# EAGLE library part IBMATBUS (library connect)
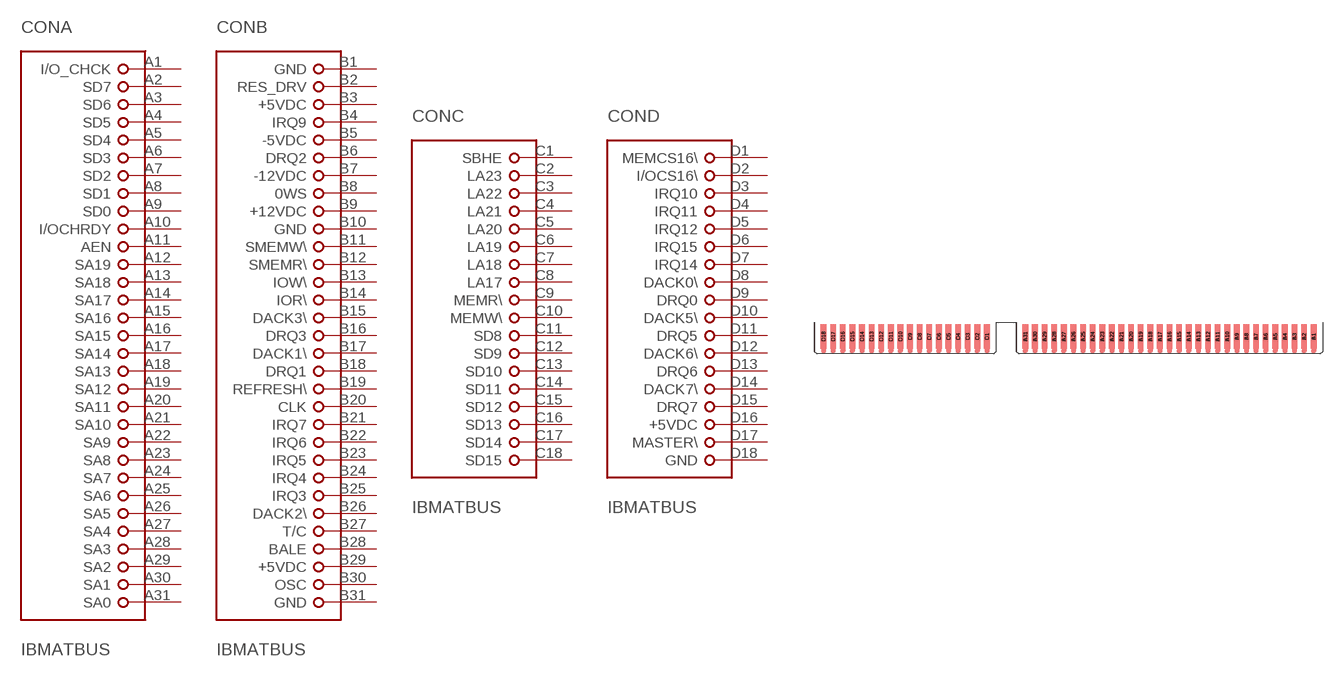
[diagram p19: symbol with the pads of IBM-AT; footprint IBM-AT]

Designator prefix CON; gates A=IBMAT-A B=IBMAT-B C=IBMAT-C D=IBMAT-D

## IBMATBUS  [IBM-AT]
A1  A:I/O_CHCK  in
A2  A:SD7
A3  A:SD6
A4  A:SD5
A5  A:SD4
A6  A:SD3
A7  A:SD2
A8  A:SD1
A9  A:SD0
A10  A:I/OCHRDY  in
A11  A:AEN  out
A12  A:SA19
A13  A:SA18
A14  A:SA17
A15  A:SA16
A16  A:SA15
A17  A:SA14
A18  A:SA13
A19  A:SA12
A20  A:SA11
A21  A:SA10
A22  A:SA9
A23  A:SA8
A24  A:SA7
A25  A:SA6
A26  A:SA5
A27  A:SA4
A28  A:SA3
A29  A:SA2
A30  A:SA1
A31  A:SA0
B1  B:GND  pwr
B2  B:RES_DRV  out
B3  B:+5VDC  pwr
B4  B:IRQ9  in
B5  B:-5VDC  pwr
B6  B:DRQ2  in
B7  B:-12VDC  pwr
B8  B:0WS  in
B9  B:+12VDC  pwr
B10  B:GND  pwr
B11  B:SMEMW\  out
B12  B:SMEMR\  out
B13  B:IOW\
B14  B:IOR\
B15  B:DACK3\  out
B16  B:DRQ3  in
B17  B:DACK1\  out
B18  B:DRQ1  in
B19  B:REFRESH\
B20  B:CLK  out
B21  B:IRQ7  in
B22  B:IRQ6  in
B23  B:IRQ5  in
B24  B:IRQ4  in
B25  B:IRQ3  in
B26  B:DACK2\  out
B27  B:T/C  out
B28  B:BALE  out
B29  B:+5VDC  pwr
B30  B:OSC  out
B31  B:GND  pwr
C1  C:SBHE
C2  C:LA23
C3  C:LA22
C4  C:LA21
C5  C:LA20
C6  C:LA19
C7  C:LA18
C8  C:LA17
C9  C:MEMR\
C10  C:MEMW\
C11  C:SD8
C12  C:SD9
C13  C:SD10
C14  C:SD11
C15  C:SD12
C16  C:SD13
C17  C:SD14
C18  C:SD15
D1  D:MEMCS16\  in
D2  D:I/OCS16\  in
D3  D:IRQ10  in
D4  D:IRQ11  in
D5  D:IRQ12  in
D6  D:IRQ15  in
D7  D:IRQ14  in
D8  D:DACK0\  out
D9  D:DRQ0  in
D10  D:DACK5\  out
D11  D:DRQ5  in
D12  D:DACK6\  out
D13  D:DRQ6  in
D14  D:DACK7\  out
D15  D:DRQ7  in
D16  D:+5VDC  pwr
D17  D:MASTER\  in
D18  D:GND  pwr

## Footprint IBM-AT (pad centres in mm)
smd 1.524 x 6.477: A1 64.77,0.635; A2 62.23,0.635; A3 59.69,0.635; A4 57.15,0.635; A5 54.61,0.635; A6 52.07,0.635; A7 49.53,0.635; A8 46.99,0.635; A9 44.45,0.635; A10 41.91,0.635; A11 39.37,0.635; A12 36.83,0.635; A13 34.29,0.635; A14 31.75,0.635; A15 29.21,0.635; A16 26.67,0.635; A17 24.13,0.635; A18 21.59,0.635; A19 19.05,0.635; A20 16.51,0.635; A21 13.97,0.635; A22 11.43,0.635; A23 8.89,0.635; A24 6.35,0.635; A25 3.81,0.635; A26 1.27,0.635; A27 -1.27,0.635; A28 -3.81,0.635; A29 -6.35,0.635; A30 -8.89,0.635; A31 -11.43,0.635; C1 -21.59,0.635; C2 -24.13,0.635; C3 -26.67,0.635; C4 -29.21,0.635; C5 -31.75,0.635; C6 -34.29,0.635; C7 -36.83,0.635; C8 -39.37,0.635; C9 -41.91,0.635; C10 -44.45,0.635; C11 -46.99,0.635; C12 -49.53,0.635; C13 -52.07,0.635; C14 -54.61,0.635; C15 -57.15,0.635; C16 -59.69,0.635; C17 -62.23,0.635; C18 -64.77,0.635
smd 1.524 x 6.477 bottom: B1 64.77,0.635; B2 62.23,0.635; B3 59.69,0.635; B4 57.15,0.635; B5 54.61,0.635; B6 52.07,0.635; B7 49.53,0.635; B8 46.99,0.635; B9 44.45,0.635; B10 41.91,0.635; B11 39.37,0.635; B12 36.83,0.635; B13 34.29,0.635; B14 31.75,0.635; B15 29.21,0.635; B16 26.67,0.635; B17 24.13,0.635; B18 21.59,0.635; B19 19.05,0.635; B20 16.51,0.635; B21 13.97,0.635; B22 11.43,0.635; B23 8.89,0.635; B24 6.35,0.635; B25 3.81,0.635; B26 1.27,0.635; B27 -1.27,0.635; B28 -3.81,0.635; B29 -6.35,0.635; B30 -8.89,0.635; B31 -11.43,0.635; D1 -21.59,0.635; D2 -24.13,0.635; D3 -26.67,0.635; D4 -29.21,0.635; D5 -31.75,0.635; D6 -34.29,0.635; D7 -36.83,0.635; D8 -39.37,0.635; D9 -41.91,0.635; D10 -44.45,0.635; D11 -46.99,0.635; D12 -49.53,0.635; D13 -52.07,0.635; D14 -54.61,0.635; D15 -57.15,0.635; D16 -59.69,0.635; D17 -62.23,0.635; D18 -64.77,0.635